# EAGLE library part TPS71921-22DRVT (library TI_TPS)
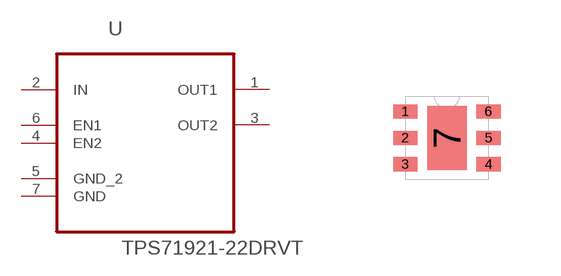
[diagram p3: symbol with the pads of SON65P200X200X80-7N; footprint SON65P200X200X80-7N]

Designator prefix U

## TPS71921-22DRVT (DESCRIPTION: Low-Dropout Linear Regulators; MPN: TPS71921-22DRVT; OC_FARNELL: 1735604; OC_NEWARK: 05R8708; PACKAGE: SON-6; SUPPLIER: Texas Instruments)  [SON65P200X200X80-7N]
1  OUT1  out
2  IN  pwr
3  OUT2  out
4  EN2  in
5  GND_2  pas
6  EN1  in
7  GND  pas

## Footprint SON65P200X200X80-7N (pad centres in mm)
smd 0.61 x 0.356: 1 -1.041,0.66; 2 -1.041,0; 3 -1.041,-0.66; 4 1.041,-0.66; 5 1.041,0; 6 1.041,0.66
smd 0.991 x 1.6: 7 0,0